# EAGLE library part TG110-S050N2 (library m-pad)
Halo's TG110-S050N2 ULTRA-Series, 16 Pin SOIC 10/100BASE-TX Magnetic Modules Description: HALO Electronics has developed the ULTRA-series of 16 pin SOIC Isolation Modules to meet the requirements of IEEE 802.3 for 10/100BASE-TX and ATM155 applications. Designed to provide a significant real estate reduction at the lowest price. Standard devices are available for all Phy's. Please visit our web site to select the correct device for the corresponding Phy. Please send any comments to: messi@users.sourceforge.net
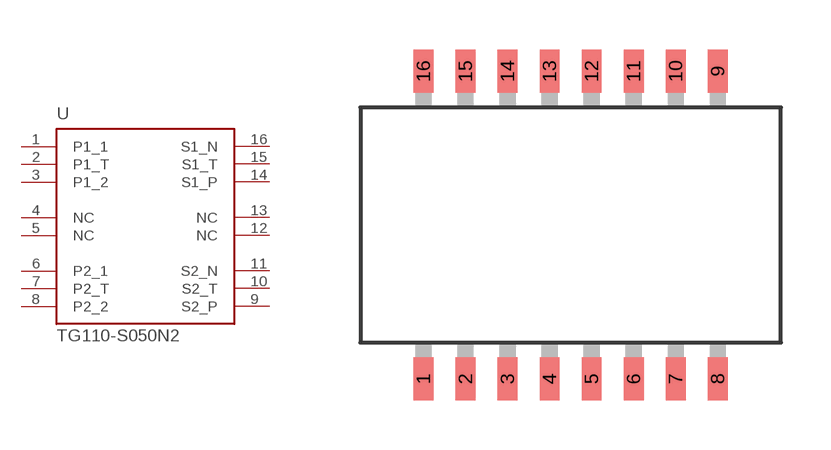
[diagram p129: symbol with the pads of SOIC-16; footprint SOIC-16]

Designator prefix U

## TG110-S050N2  [SOIC-16]
1  P1_1  pas
2  P1_T  pas
3  P1_2  pas
4  NC  pas
5  NC  pas
6  P2_1  pas
7  P2_T  pas
8  P2_2  pas
9  S2_P  pas
10  S2_T  pas
11  S2_N  pas
12  NC  pas
13  NC  pas
14  S1_P  pas
15  S1_T  pas
16  S1_N  pas

## Footprint SOIC-16 (pad centres in mm)
smd 0.6 x 1.3: 1 -4.445,-4.65; 2 -3.175,-4.65; 3 -1.905,-4.65; 4 -0.635,-4.65; 5 0.635,-4.65; 6 1.905,-4.65; 7 3.175,-4.65; 8 4.445,-4.65; 9 4.445,4.65; 10 3.175,4.65; 11 1.905,4.65; 12 0.635,4.65; 13 -0.635,4.65; 14 -1.905,4.65; 15 -3.175,4.65; 16 -4.445,4.65